# EAGLE library part MM5369 (library chuong)
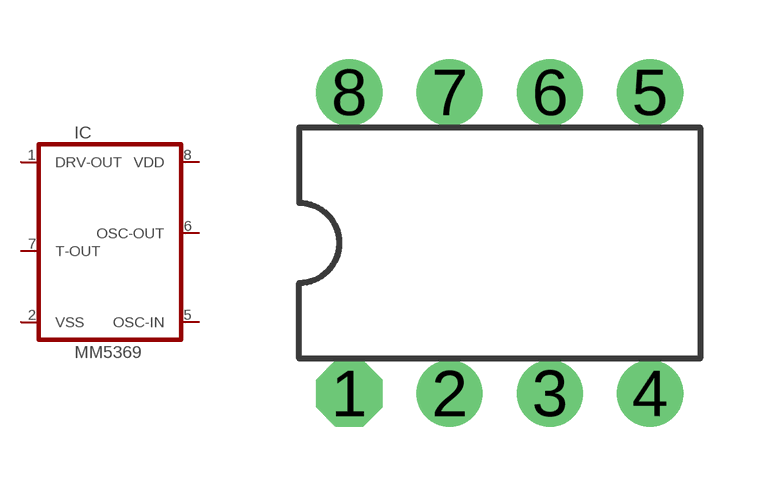
[diagram p37: symbol with the pads of DIL-8; footprint DIL-8]

Designator prefix IC

## MM5369  [DIL-8]
1  DRV-OUT  in
2  VSS  pwr
5  OSC-IN  in
6  OSC-OUT  out
7  T-OUT  pwr
8  VDD  pwr

## Footprint DIL-8 (pad centres in mm)
drill 0.61 pad 1.676 octagon: 1 -3.81,-3.81
drill 0.61 pad 1.676 round: 2 -1.27,-3.81; 3 1.27,-3.81; 4 3.81,-3.81; 5 3.81,3.81; 6 1.27,3.81; 7 -1.27,3.81; 8 -3.81,3.81